# Altium schematic symbol library RES,Trim,5T,2k,0.75W,Top-Adj,SMD.Schlib: 1 symbol
Pins are listed as number, name and electrical type; pins without a type are passive.

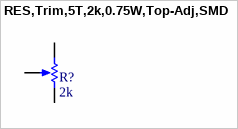
[diagram p0: symbol RES,Trim,5T,2k,0.75W,Top-Adj,SMD]

## RES,Trim,5T,2k,0.75W,Top-Adj,SMD
designator R?, comment 2k
0.25W, 1/4W J Lead Surface Mount Trimmer Potentiometer Cermet Turn Top Adjustment
pins: 1 BOT, 2 TAP, 3 TOP
1 alternate drawing of the same symbol